# Altium integrated library Infineon_Power_Smart_Low-Side_&_High-Side_Switches.IntLib: 238 symbols (part 3 of 14)
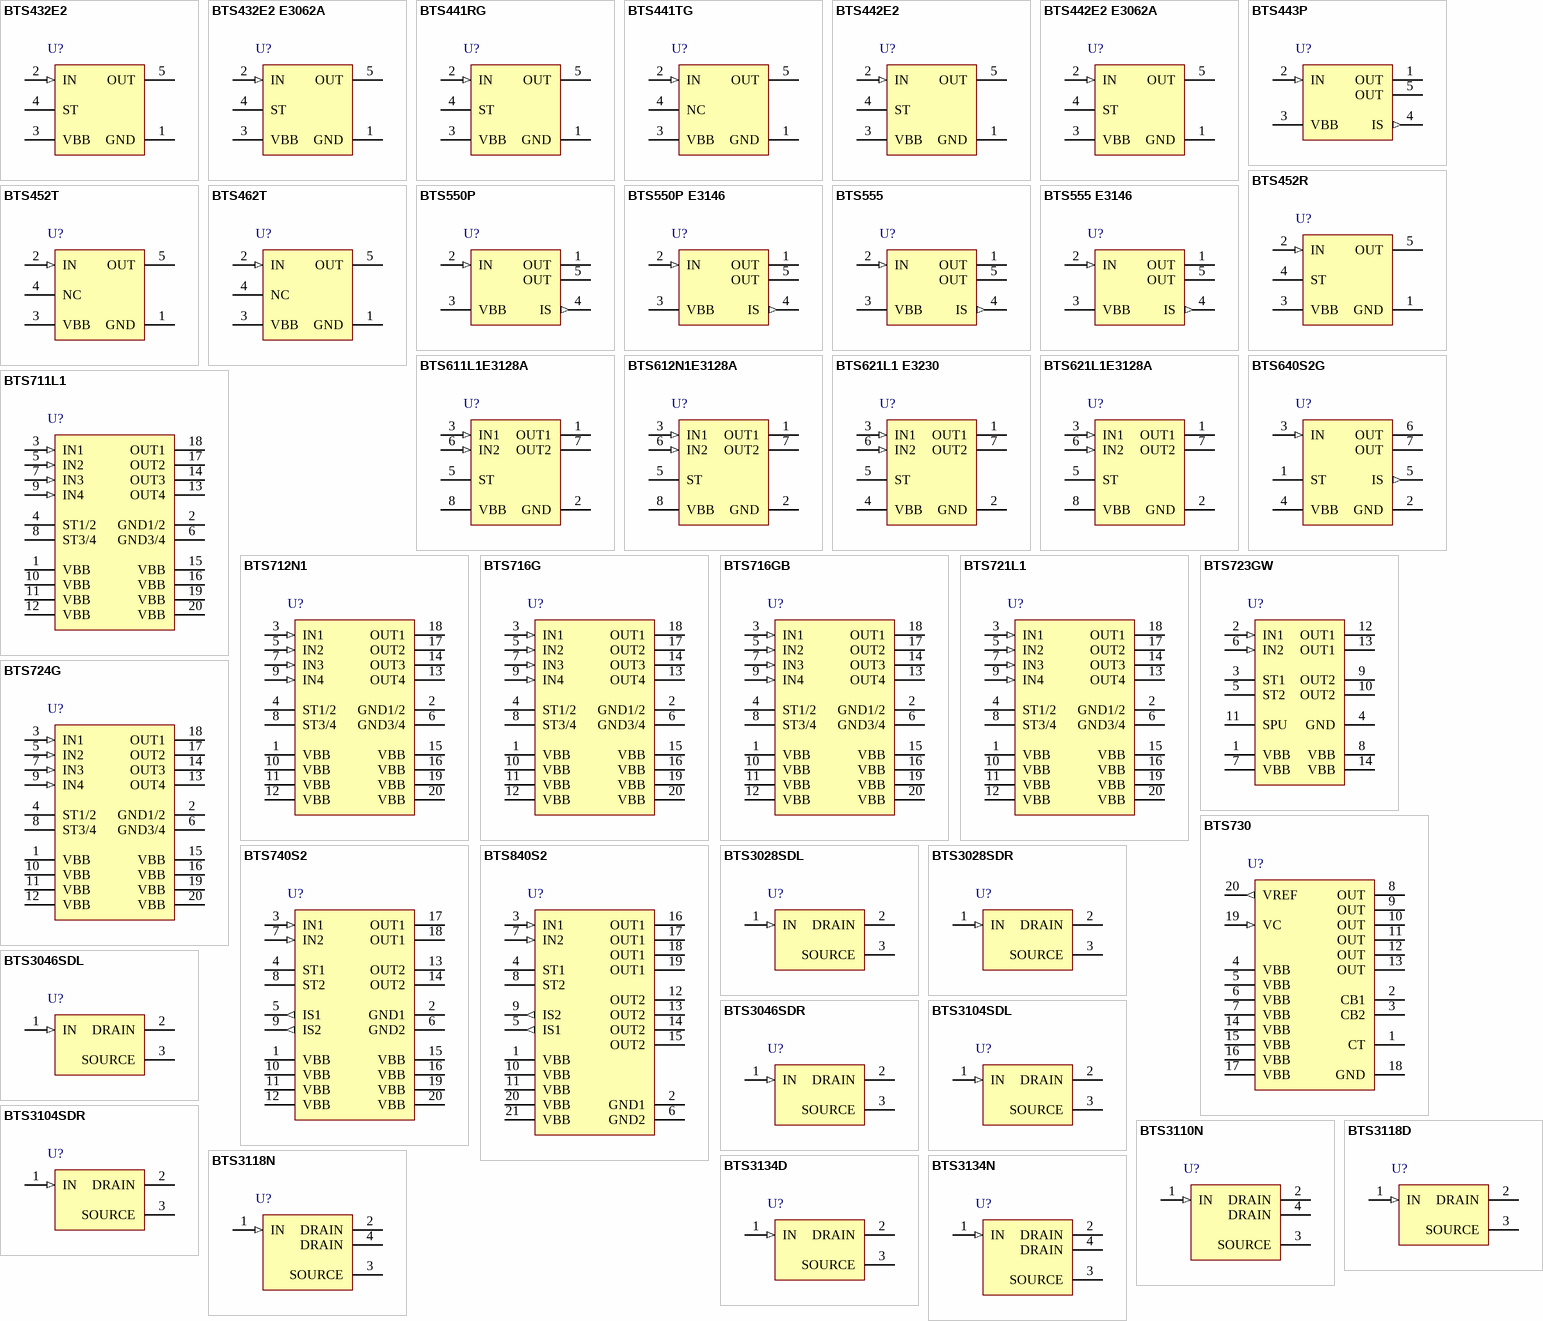
[diagram p9: symbols BTS432E2 to BTS3134N]

## BTS550P
designator U?
Smart Highside High Current Power Switch, -40 to 150 degC, PG-TO220AB-5, Tube; Manufacturer: Infineon; PartNumber: BTS550P; Green: FALSE; PackageVersion: V01, 06/2010; PackageReference: P-TO218-5-146; PackageDescription: 5-Pin Plastic Transistor Single Outline Package, 15 x 12.5 mm Body, 2.54 mm Pitch; Halogen-free: FALSE; Packing: Tube; Mounting Technology: Through Hole; ComponentLink1Description: Manufacturer URL; ComponentLink1URL: http://www.infineon.com/; ComponentLink2Description: Datasheet; ComponentLink2URL: http://www.infineon.com/dgdl/BTS550p_20030925.pdf?folderId=db3a304412b407950112b436e3d666fb&fileId=db3a304412b407950112b436e45666fc&location=en.Products.Automotive_ICs.Smart_High-_and_Low-Side_Switches.PROFET__-_Smart_High_Side_Switches.DATASHEET.BTS550p_20030925.pdf; ComponentLink3Description: Package Specification; ComponentLink3URL: http://www.infineon.com/dgdl/BTS550_DS_v11.pdf?folderId=db3a30431ddc9372011e26863f92474e&fileId=db3a30432ba3fa6f012bd3e978183b76&sId=db3a30443d67b5ca013d8572cdc4342b
footprint INF-P-TO218-5-146 (FM, 5-Leads, Body 15x12.5mm, Pitch 2.54mm)
pins: 1 OUT (power) "Output to the load. The pins 1 and 5 must be shorted with each other especially in high current applications", 2 IN (in) "Input, activates the power switch in case of short to ground", 3 VBB (power) "Positive power supply voltage, the tab is electrically connected to this pin. In high current applications the tab should be used for the Vbb connection instead of this pin.", 4 IS (out) "Diagnostic feedback providing a sense current proportional to the load current; zero current on failure", 5 OUT (power) "Output to the load. The pins 1 and 5 must be shorted with each other especially in high current applications"

## BTS550P E3146
designator U?
Smart High-Side High Current Power Switch, 1 Channel, 35 A Load Current, -40 to 150 degC, P-TO218-5-146, Reel, Green; Manufacturer: Infineon; PartNumber: BTS550P E3146; Channels: 1; Green: TRUE; Group: Automotive Qualified; Load Current (typ): 35 A; Ptot (max): 360 W; Recommended Operating Voltage Max.: 34 V; Recommended Operating Voltage Min.: 5 V; RON @ 25degreesC: 3.6 mOhm; RON(max) @ 150degreesC: 6.5 mOhm; toff (max): 150 us; ton (max): 600 us; PackageVersion: Jun-10; PackageReference: P-TO218-5-146; PackageDescription: 5-Pin Plastic Transistor Single Outline Package, 15 x 12.5 mm Body, 2.54 mm Pitch; Supplier 1: Digi-Key; Supplier Part Number 1: BTS550P E3146-ND; Halogen-free: FALSE; Packing: Reel; Mounting Technology: Through Hole; ComponentLink1Description: Manufacturer URL; ComponentLink1URL: http://www.infineon.com/; ComponentLink2Description: Datasheet; ComponentLink2URL: http://www.infineon.com/dgdl/BTS550_DS_v11.pdf?folderId=db3a30431ddc9372011e26863f92474e&fileId=db3a30432ba3fa6f012bd3e978183b76&location=en.Products.Automotive_ICs.Smart_High-_and_Low-Side_Switches.PROFET__-_Smart_High_Side_Switches.DATASHEET.BTS550_DS_v11.pdf; ComponentLink3Description: Package Specification; ComponentLink3URL: http://www.infineon.com/dgdl/BTS550_DS_v11.pdf?folderId=db3a30431ddc9372011e26863f92474e&fileId=db3a30432ba3fa6f012bd3e978183b76&sId=db3a30443d67b5ca013d8572cdc4342b
footprint INF-P-TO218-5-146 (FM, 5-Leads, Body 15x12.5mm, Pitch 2.54mm)
pins: 1 OUT (power) "Output to the load. The pins1 and 5 must be shorted with each other especially in high current applications!", 2 IN (in) "Input, activates the power switch in case of short to ground", 3 VBB (power) "Positive power supply voltage, the tab is electrically connected to this pin.In high current applications the tab should be used for the Vbb connection instead of this pin", 4 IS (out) "Diagnostic feedback providing a sense current proportional to the load current; zero current on failure (see Truth Table on page 7)", 5 OUT (power) "Output to the load. The pins1 and 5 must be shorted with each other especially in high current applications!"

## BTS555
designator U?
Smart Highside High Current Power Switch, -40 to 150 degC, P-TO218-5-1, Tube; Manufacturer: Infineon; PartNumber: BTS555; Green: FALSE; PackageVersion: Rev. 01, 06/2008; PackageReference: P-TO218-5-1; PackageDescription: 5-Pin Plastic Transistor Single Outline Package, 15 x 4.9 mm Body, 2.54 mm Pitch; Supplier 1: Mouser; Supplier Part Number 1: 726-BTS555; Supplier 2: Digi-Key; Supplier Part Number 2: BTS555-ND; Halogen-free: FALSE; Packing: Tube; Mounting Technology: Through Hole; ComponentLink1Description: Manufacturer URL; ComponentLink1URL: http://www.infineon.com/; ComponentLink2Description: Datasheet; ComponentLink2URL: http://www.infineon.com/dgdl/BTS555_20080624.pdf?folderId=db3a304412b407950112b436f494671e&fileId=db3a304412b407950112b436f516671f&location=en.Products.Automotive_ICs.Smart_High-_and_Low-Side_Switches.PROFET__-_Smart_High_Side_Switches.DATASHEET.BTS555_20080624.pdf; ComponentLink3Description: Package Specification; ComponentLink3URL: http://www.infineon.com/dgdl/BTS555_20080624.pdf?folderId=db3a304412b407950112b436f494671e&fileId=db3a304412b407950112b436f516671f&sId=db3a30443d67b5ca013d819962512cfa
footprint INF-P-TO218-5-1 (FM, 5-Leads, Body 15x4.9mm, Pitch 2.54mm)
pins: 1 OUT (power) "Output to the load. The pins 1 and 5 must be shorted with each other especially in high current applications", 2 IN (in) "Input, activates the power switch in case of short to ground", 3 VBB (power) "Positive power supply voltage, the tab is electrically connected to this pin. In high current applications the tab should be used for the Vbb connection instead of this pin.", 4 IS (out) "Diagnostic feedback providing a sense current proportional to the load current; zero current on failure", 5 OUT (power) "Output to the load. The pins 1 and 5 must be shorted with each other especially in high current applications"

## BTS555 E3146
designator U?
Smart High-Side High Current Power Switch, 1 Channel, 45 A Load Current, -40 to 150 degC, P-TO218-5-146, Reel, Green; Manufacturer: Infineon; PartNumber: BTS555 E3146; Channels: 1; Green: TRUE; Group: Automotive Qualified; Load Current (typ): 45 A; Ptot (max): 360 W; Recommended Operating Voltage Max.: 34 V; Recommended Operating Voltage Min.: 5 V; RON @ 25degreesC: 2.5 mOhm; RON(max) @ 150degreesC: 4 mOhm; toff (max): 200 us; ton (max): 600 us; PackageVersion: Jun-10; PackageReference: P-TO218-5-146; PackageDescription: 5-Pin Plastic Transistor Single Outline Package, 15 x 12.5 mm Body, 2.54 mm Pitch; Supplier 1: Digi-Key; Supplier Part Number 1: BTS555E3146INLF-ND; Supplier 2: Digi-Key; Supplier Part Number 2: BTS555E3146IN-ND; Halogen-free: FALSE; Packing: Reel; Mounting Technology: Through Hole; ComponentLink1Description: Manufacturer URL; ComponentLink1URL: http://www.infineon.com/; ComponentLink2Description: Datasheet; ComponentLink2URL: http://www.infineon.com/dgdl/BTS555_DS_v11.pdf?folderId=db3a30431ddc9372011e26863f92474e&fileId=db3a30432ba3fa6f012bd3dfdd0b3b65&location=en.Products.Automotive_ICs.Smart_High-_and_Low-Side_Switches.PROFET__-_Smart_High_Side_Switches.DATASHEET.BTS555_DS_v11.pdf; ComponentLink3Description: Package Specification; ComponentLink3URL: http://www.infineon.com/dgdl/BTS550_DS_v11.pdf?folderId=db3a30431ddc9372011e26863f92474e&fileId=db3a30432ba3fa6f012bd3e978183b76&sId=db3a30443d67b5ca013d8572cdc4342b
footprint INF-P-TO218-5-146 (FM, 5-Leads, Body 15x12.5mm, Pitch 2.54mm)
pins: 1 OUT (power) "Output to the load. The pins1 and 5 must be shorted with each other especially in high current applications!", 2 IN (in) "Input, activates the power switch in case of short to ground", 3 VBB (power) "Positive power supply voltage, the tab is electrically connected to this pin.In high current applications the tab should be used for the Vbb connection instead of this pin", 4 IS (out) "Diagnostic feedback providing a sense current proportional to the load current; zero current on failure (see Truth Table on page 7)", 5 OUT (power) "Output to the load. The pins1 and 5 must be shorted with each other especially in high current applications!"

## BTS611L1E3128A
designator U?
Smart Two Channel High-Side Power Switch, 5 to 34 V, -40 to 150 degC, PG-TO263-7, Reel, Green; Manufacturer: Infineon; PartNumber: BTS611L1E3128A; Channels: 2; Diagnostic: Digital; Green: TRUE; IL (nom)min - all channels active: 3.5 A; IL (nom)min - one channel active: 1.8 A; IL(SC): 4 A; Load Current (typ): 2.3 A; Ptot (max): 36 W; Recommended Operating Voltage Max.: 34 V; Recommended Operating Voltage Min.: 5 V; RON (max) @ Tj: 150degreesC=400 mOhm; RON @ Tj: 25degreesC=200 mOhm; toff (max): 400 us; PackageReference: PG-TO263-7-2; PackageDescription: 7-Pin Plastic (Green) Transistor Single Outline Package, 10 x 9.25 mm Body, 1.27 mm Pitch; Packing: Reel; ton (max): 400 us; Mounting Technology: Surface Mount; ComponentLink1Description: Manufacturer URL; ComponentLink1URL: http://www.infineon.com/; ComponentLink2Description: Datasheet; ComponentLink2URL: http://www.infineon.com/dgdl/BTS611L1_20131011.pdf?folderId=db3a30431400ef68011421b54e2e0564&fileId=5546d461463c1ac8014641a17a8571ab; ComponentLink3Description: Package Specification; ComponentLink3URL: http://www.infineon.com/cms/packages/SMD_-_Surface_Mounted_Devices/P-PG-TO263/P-TO263-07-02x_-3.html?__locale=en
footprint INF-PG-TO263-7-2_V (DPAK, 7-Leads, Body 10x9.25mm, Pitch 1.27mm)
pins: 1 OUT1 (power) "Output 1, protected high-side power output of channel 1", 2 GND (power) "Logic ground", 3 IN1 (in) "Input 1, activates channel 1 in case of logical high signal", 5 ST (oc) "Diagnostic feedback: open drain, low on failure", 6 IN2 (in) "Input 2, activates channel 2 in case of logical high signal", 7 OUT2 (power) "Output 2, protected high-side power output of channel 2", 8 VBB (power) "Positive power supply voltage, the tab is shorted to this pin"

## BTS612N1E3128A
designator U?
Smart Two Channel High-Side Power Switch, 5 to 34 V, -40 to 150 degC, PG-TO263-7, Reel, Green; Manufacturer: Infineon; PartNumber: BTS612N1E3128A; Channels: 2; Diagnostic: Digital; Green: TRUE; IL (nom)min - all channels active: 3.5 A; IL (nom)min - one channel active: 1.8 A; IL(SC): 4 A; Ptot (max): 36 W; Recommended Operating Voltage Max.: 34 V; Recommended Operating Voltage Min.: 5 V; RON (max) @ Tj: 150degreesC=500 mOhm; RON @ Tj: 25degreesC=200 mOhm; toff (max): 400 us; PackageReference: PG-TO263-7-2; PackageDescription: 7-Pin Plastic (Green) Transistor Single Outline Package, 10 x 9.25 mm Body, 1.27 mm Pitch; Packing: Reel; ton (max): 400 us; Mounting Technology: Surface Mount; ComponentLink1Description: Manufacturer URL; ComponentLink1URL: http://www.infineon.com/; ComponentLink2Description: Datasheet; ComponentLink2URL: http://www.infineon.com/dgdl/BTS612N1_20131011.pdf?folderId=db3a30431400ef68011421b54e2e0564&fileId=5546d461463c1ac8014641a6188e71ca; ComponentLink3Description: Package Specification; ComponentLink3URL: http://www.infineon.com/cms/packages/SMD_-_Surface_Mounted_Devices/P-PG-TO263/P-TO263-07-02x_-3.html?__locale=en
footprint INF-PG-TO263-7-2_V (DPAK, 7-Leads, Body 10x9.25mm, Pitch 1.27mm)
pins: 1 OUT1 (power) "Output 1, protected high-side power output of channel 1", 2 GND (power) "Logic ground", 3 IN1 (in) "Input 1, activates channel 1 in case of logical high signal", 5 ST (oc) "Diagnostic feedback: open drain, low on failure", 6 IN2 (in) "Input 2, activates channel 2 in case of logical high signal", 7 OUT2 (power) "Output 2, protected high-side power output of channel 2", 8 VBB (power) "Positive power supply voltage, the tab is shorted to this pin"

## BTS621L1 E3230
designator U?
Smart High-Side Power Switch, 2 Channels, 8.5 A Load Current, -40 to 150 degC, P-TO220-7-230, Reel; Manufacturer: Infineon; PartNumber: BTS621L1 E3230; Channels: 2; Green: FALSE; Group: Automotive Qualified; Load Current (typ): 8.5 A; Ptot (max): 75 W; Recommended Operating Voltage Max.: 34 V; Recommended Operating Voltage Min.: 5 V; RON @ 25degreesC: 100 mOhm; RON(max) @ 150degreesC: 200 mOhm; toff (max): 400 us; PackageReference: P-TO220-7-230; PackageDescription: 7-Pin Plastic Transistor Single Outline Package, 9.9 x 9.2 mm Body, 1.27 mm Pitch; Supplier 1: Digi-Key; Supplier Part Number 1: BTS621L1 E3230-ND; Halogen-free: FALSE; Packing: Reel; ton (max): 400 us; Mounting Technology: Through Hole; ComponentLink1Description: Manufacturer URL; ComponentLink1URL: http://www.infineon.com/; ComponentLink2Description: Datasheet; ComponentLink2URL: http://www.infineon.com/dgdl/BTS621L1_20030922.pdf?folderId=db3a30431400ef68011421b54e2e0564&fileId=db3a304333227b5e0133258247c72ecc&location=en.Products.Automotive_ICs.Smart_High-_and_Low-Side_Switches.PROFET__-_Smart_High_Side_Switches.DATASHEET.BTS621L1_20030922.pdf; ComponentLink3Description: Package Specification; ComponentLink3URL: http://www.infineon.com/cms/packages/Leaded_and_through-hole/P-PG-TO220/P-PG-TO220-7-230.html?__locale=en
footprint INF-P-TO220-7-230 (FM, 7-Leads, Body 9.9x4.4mm, Pitch 1.27mm)
pins: 1 OUT1 (power) "Output 1, protected high-side power output of channel 1", 2 GND (power) "Logic ground", 3 IN1 (in) "Input 1, activates channel 1 in case of logical high signal", 4 VBB (power) "Positive power supply voltage, the tab is shorted to this pin", 5 ST (oc) "Diagnostic feedback: open drain, low on failure", 6 IN2 (in) "Input 2, activates channel 2 in case of logical high signal", 7 OUT2 (power) "Output 2, protected high-side power output of channel 2"

## BTS621L1E3128A
designator U?
Smart Two Channel High-Side Power Switch, 5 to 34 V, -40 to 150 degC, PG-TO263-7, Reel, Green; Manufacturer: Infineon; PartNumber: BTS621L1E3128A; Channels: 2; Diagnostic: Digital; Green: TRUE; IL (SCp): 14 A; IL(SC): 8 A; Load Current (typ): 8.5 A; Ptot (max): 75 W; Recommended Operating Voltage Max.: 34 V; Recommended Operating Voltage Min.: 5 V; RON (max) @ Tj: 150degreesC=200 mOhm; RON @ Tj: 25degreesC=100 mOhm; toff (max): 400 us; PackageReference: PG-TO263-7-2; PackageDescription: 7-Pin Plastic (Green) Transistor Single Outline Package, 10 x 9.25 mm Body, 1.27 mm Pitch; Packing: Reel; ton (max): 400 us; Mounting Technology: Surface Mount; ComponentLink1Description: Manufacturer URL; ComponentLink1URL: http://www.infineon.com/; ComponentLink2Description: Datasheet; ComponentLink2URL: http://www.infineon.com/dgdl/BTS621L1_20131011.pdf?folderId=db3a30431400ef68011421b54e2e0564&fileId=db3a304333227b5e0133258247c72ecc; ComponentLink3Description: Package Specification; ComponentLink3URL: http://www.infineon.com/cms/packages/SMD_-_Surface_Mounted_Devices/P-PG-TO263/P-TO263-07-02x_-3.html?__locale=en
footprint INF-PG-TO263-7-2_V (DPAK, 7-Leads, Body 10x9.25mm, Pitch 1.27mm)
pins: 1 OUT1 (power) "Output 1, protected high-side power output of channel 1", 2 GND (power) "Logic ground", 3 IN1 (in) "Input 1, activates channel 1 in case of logical high signal", 5 ST (oc) "Diagnostic feedback: open drain, low on failure", 6 IN2 (in) "Input 2, activates channel 2 in case of logical high signal", 7 OUT2 (power) "Output 2, protected high-side power output of channel 2", 8 VBB (power) "Positive power supply voltage, the tab is shorted to this pin"

## BTS640S2G
designator U?
Smart High-Side Power Switch, 1 Channel, 4.5 A Load Current, -40 to 150 degC, PG-TO-263-7-6, Reel, Green; Manufacturer: Infineon; PartNumber: BTS640S2G; Channels: 1; Green: TRUE; Group: Automotive Qualified; Load Current (typ): 4.5 A; Ptot (max): 85 W; Recommended Operating Voltage Max.: 34 V; Recommended Operating Voltage Min.: 5 V; RON @ 25degreesC: 30 mOhm; RON(max) @ 150degreesC: 60 mOhm; toff (max): 150 us; ton (max): 200 us; DatasheetVersion: Rev. 1.1; PackageVersion: Aug-08; PackageReference: PG-TO-263-7-6; PackageDescription: 7-Pin Plastic (Green) Transistor Single Outline Package, 9.9 x 9.2 mm Body, 1.27 mm Pitch; Supplier 1: Mouser; Supplier Part Number 1: 726-BTS640S2G; Supplier 2: Newark; Supplier Part Number 2: 47W3406; Supplier 3: Farnell; Supplier Part Number 3: 2215499; Halogen-free: TRUE; Packing: Reel; Mounting Technology: Surface Mount; ComponentLink1Description: Manufacturer URL; ComponentLink1URL: http://www.infineon.com/; ComponentLink2Description: Datasheet; ComponentLink2URL: http://www.infineon.com/dgdl/BTS640S2G_2008_18_08_green.pdf?folderId=db3a304314dca389011537739e37155f&fileId=db3a30431c48a312011c4c26425c0023&location=en.Products.Automotive_ICs.Smart_High-_and_Low-Side_Switches.PROFET__-_Smart_High_Side_Switches.DATASHEET.BTS640S2G_2008_18_08_green.pdf; ComponentLink3Description: Package Specification; ComponentLink3URL: http://www.infineon.com/dgdl/BTS640S2G_2008_18_08_green.pdf?folderId=db3a304314dca389011537739e37155f&fileId=db3a30431c48a312011c4c26425c0023&sId=db3a30443d67b5ca013d8261f3a92e73
footprint INF-PG-TO-263-7-6_N (DPAK, 7-Leads, Body 9.9x9.2mm, Pitch 1.27mm, IPC Medium Density)
footprint INF-PG-TO-263-7-6_L (DPAK, 7-Leads, Body 9.9x9.2mm, Pitch 1.27mm, IPC High Density)
footprint INF-PG-TO-263-7-6_M (DPAK, 7-Leads, Body 9.9x9.2mm, Pitch 1.27mm, IPC Low Density)
pins: 1 ST (oc) "Diagnostic feedback: open drain, invers to input level", 2 GND (power) "Logic ground", 3 IN (in) "Input, activates the power switch in case of logical high signal", 4 VBB (power) "Positive power supply voltage, the tab is shorted to this pin", 5 IS (out) "Sense current output, proportional to the load current, zero in  the case of current limitation of load current", 6 OUT (power) "Output, protected high-side power output to the load.  Both output pins have to be connected in parallel for operation  according this spec (e.g. kILIS). Design the wiring for the max. short circuit current", 7 OUT (power) "Output, protected high-side power output to the load.  Both output pins have to be connected in parallel for operation  according this spec (e.g. kILIS). Design the wiring for the max. short circuit current"

## BTS711L1
designator U?
Smart High-Side Power Switch, 4 Channels, 1.9 A Load Current, -40 to 150 degC, PG-DSO-20-31, Reel, Green; Manufacturer: Infineon; PartNumber: BTS711L1; Channels: 4; Green: TRUE; Group: Automotive Qualified; Load Current (typ): 1.9 A; Recommended Operating Voltage Max.: 35 V; Recommended Operating Voltage Min.: 5 V; RON @ 25degreesC: 200 mOhm; RON(max) @ 150degreesC: 400 mOhm; DatasheetVersion: Rev 1.3; PackageVersion: Jan-12; PackageReference: PG-DSO-20-31; PackageDescription: 20-Pin Plastic (Green) Dual Small Outline Package, 12.7 x 7.5 mm Body, 1.27 mm Pitch; Supplier 1: Mouser; Supplier Part Number 1: 726-BTS711L1; Supplier 2: Digi-Key; Supplier Part Number 2: BTS711L1INTR-ND; Supplier 3: Digi-Key; Supplier Part Number 3: BTS711L1INCT-ND; Supplier 4: Digi-Key; Supplier Part Number 4: BTS711L1INDKR-ND; Halogen-free: TRUE; Packing: Reel; Mounting Technology: Surface Mount; ComponentLink1Description: Manufacturer URL; ComponentLink1URL: http://www.infineon.com/; ComponentLink2Description: Datasheet; ComponentLink2URL: http://www.infineon.com/dgdl/BTS711L1_DS13.pdf?folderId=db3a304314dca389011537739e37155f&fileId=db3a30432239cccd0122e55f98d43c5f&location=en.Products.Automotive_ICs.Smart_High-_and_Low-Side_Switches.PROFET__-_Smart_High_Side_Switches.DATASHEET.BTS711L1_DS13.pdf; ComponentLink3Description: Package Specification; ComponentLink3URL: http://www.infineon.com/dgdl/BTS711L1_DS13.pdf?folderId=db3a304314dca389011537739e37155f&fileId=db3a30432239cccd0122e55f98d43c5f&sId=db3a30433d68e984013d81ad4c8d73f2
footprint INF-PG-DSO-20-31_N (SOP, 20-Leads, Body 12.7x7.5mm, Pitch 1.27mm, IPC High Density)
footprint INF-PG-DSO-20-31_L (SOP, 20-Leads, Body 12.7x7.5mm, Pitch 1.27mm, IPC High Density)
footprint INF-PG-DSO-20-31_M (SOP, 20-Leads, Body 12.7x7.5mm, Pitch 1.27mm, IPC Low Density)
pins: 1 VBB (power) "Positive power supply voltage. Design the wiring for the simultaneous max. short circuit currents from channel 1 to 2 and also for low thermal resistance", 2 GND1/2 (power) "Ground of chip 1 (channel 1,2)", 3 IN1 (in) "Input 1 activates channel 1 in case of logic high signal", 4 ST1/2 (oc) "Diagnostic feedback 1/2,3/4 of channel 1,2,3,4 open drain, low on failure", 5 IN2 (in) "Input 2 activates channel 2 in case of logic high signal", 6 GND3/4 (power) "Ground of chip 2 (channel 3,4)", 7 IN3 (in) "Input 3 activates channel 3 in case of logic high signal", 8 ST3/4 (oc) "Diagnostic feedback 1/2,3/4 of channel 1,2,3,4 open drain, low on failure", 9 IN4 (in) "Input 4 activates channel 4 in case of logic high signal", 10 VBB (power) "Positive power supply voltage. Design the wiring for the simultaneous max. short circuit currents from channel 1 to 2 and also for low thermal resistance", 11 VBB (power) "Positive power supply voltage. Design the wiring for the simultaneous max. short circuit currents from channel 1 to 2 and also for low thermal resistance", 12 VBB (power) "Positive power supply voltage. Design the wiring for the simultaneous max. short circuit currents from channel 1 to 2 and also for low thermal resistance", 13 OUT4 (power) "Output 1 protected high-side power output of channel 1. Design the wiring for the max. short circuit current", 14 OUT3 (power) "Output 1 protected high-side power output of channel 1. Design the wiring for the max. short circuit current", 15 VBB (power) "Positive power supply voltage. Design the wiring for the simultaneous max. short circuit currents from channel 1 to 2 and also for low thermal resistance", 16 VBB (power) "Positive power supply voltage. Design the wiring for the simultaneous max. short circuit currents from channel 1 to 2 and also for low thermal resistance", 17 OUT2 (power) "Output 1 protected high-side power output of channel 1. Design the wiring for the max. short circuit current", 18 OUT1 (power) "Output 1 protected high-side power output of channel 1. Design the wiring for the max. short circuit current", 19 VBB (power) "Positive power supply voltage. Design the wiring for the simultaneous max. short circuit currents from channel 1 to 2 and also for low thermal resistance", 20 VBB (power) "Positive power supply voltage. Design the wiring for the simultaneous max. short circuit currents from channel 1 to 2 and also for low thermal resistance"

## BTS712N1
designator U?
Smart High-Side Power Switch, 4 Channels, 1.9 A Load Current, -40 to 150 degC, PG-DSO-20-31, Reel, Green; Manufacturer: Infineon; PartNumber: BTS712N1; Channels: 4; Green: TRUE; Group: Automotive Qualified; Load Current (typ): 1.9 A; Recommended Operating Voltage Max.: 34 V; Recommended Operating Voltage Min.: 5 V; RON @ 25degreesC: 200 mOhm; RON(max) @ 150degreesC: 400 mOhm; DatasheetVersion: Rev 1.3; PackageVersion: Jan-12; PackageReference: PG-DSO-20-31; PackageDescription: 20-Pin Plastic (Green) Dual Small Outline Package, 12.7 x 7.5 mm Body, 1.27 mm Pitch; Supplier 1: Mouser; Supplier Part Number 1: 726-BTS712N1; Supplier 2: Newark; Supplier Part Number 2: 78X4840; Supplier 3: Farnell; Supplier Part Number 3: 2432498; Supplier 4: Digi-Key; Supplier Part Number 4: BTS712N1TR-ND; Supplier 5: Digi-Key; Supplier Part Number 5: BTS712N1CT-ND; Supplier 6: Digi-Key; Supplier Part Number 6: BTS712N1DKR-ND; Halogen-free: TRUE; Packing: Reel; Mounting Technology: Surface Mount; ComponentLink1Description: Manufacturer URL; ComponentLink1URL: http://www.infineon.com/; ComponentLink2Description: Datasheet; ComponentLink2URL: http://www.infineon.com/dgdl/BTS712N1_DS13.pdf?folderId=db3a304314dca389011537739e37155f&fileId=db3a30432239cccd0122e55c9d9d3c59&location=en.Products.Automotive_ICs.Smart_High-_and_Low-Side_Switches.PROFET__-_Smart_High_Side_Switches.DATASHEET.BTS712N1_DS13.pdf; ComponentLink3Description: Package Specification; ComponentLink3URL: http://www.infineon.com/dgdl/BTS711L1_DS13.pdf?folderId=db3a304314dca389011537739e37155f&fileId=db3a30432239cccd0122e55f98d43c5f&sId=db3a30433d68e984013d81ad4c8d73f2
footprint INF-PG-DSO-20-31_N (SOP, 20-Leads, Body 12.7x7.5mm, Pitch 1.27mm, IPC High Density)
footprint INF-PG-DSO-20-31_L (SOP, 20-Leads, Body 12.7x7.5mm, Pitch 1.27mm, IPC High Density)
footprint INF-PG-DSO-20-31_M (SOP, 20-Leads, Body 12.7x7.5mm, Pitch 1.27mm, IPC Low Density)
pins: 1 VBB (power) "Positive power supply voltage. Design the wiring for the simultaneous max. short circuit currents from channel 1 to 2 and also for low thermal resistance", 2 GND1/2 (power) "Ground of chip 1 (channel 1,2)", 3 IN1 (in) "Input 1 activates channel 1 in case of logic high signal", 4 ST1/2 (oc) "Diagnostic feedback 1/2,3/4 of channel 1,2,3,4 open drain, low on failure", 5 IN2 (in) "Input 2 activates channel 2 in case of logic high signal", 6 GND3/4 (power) "Ground of chip 2 (channel 3,4)", 7 IN3 (in) "Input 3 activates channel 3 in case of logic high signal", 8 ST3/4 (oc) "Diagnostic feedback 1/2,3/4 of channel 1,2,3,4 open drain, low on failure", 9 IN4 (in) "Input 4 activates channel 4 in case of logic high signal", 10 VBB (power) "Positive power supply voltage. Design the wiring for the simultaneous max. short circuit currents from channel 1 to 2 and also for low thermal resistance", 11 VBB (power) "Positive power supply voltage. Design the wiring for the simultaneous max. short circuit currents from channel 1 to 2 and also for low thermal resistance", 12 VBB (power) "Positive power supply voltage. Design the wiring for the simultaneous max. short circuit currents from channel 1 to 2 and also for low thermal resistance", 13 OUT4 (power) "Output 1 protected high-side power output of channel 1. Design the wiring for the max. short circuit current", 14 OUT3 (power) "Output 1 protected high-side power output of channel 1. Design the wiring for the max. short circuit current", 15 VBB (power) "Positive power supply voltage. Design the wiring for the simultaneous max. short circuit currents from channel 1 to 2 and also for low thermal resistance", 16 VBB (power) "Positive power supply voltage. Design the wiring for the simultaneous max. short circuit currents from channel 1 to 2 and also for low thermal resistance", 17 OUT2 (power) "Output 1 protected high-side power output of channel 1. Design the wiring for the max. short circuit current", 18 OUT1 (power) "Output 1 protected high-side power output of channel 1. Design the wiring for the max. short circuit current", 19 VBB (power) "Positive power supply voltage. Design the wiring for the simultaneous max. short circuit currents from channel 1 to 2 and also for low thermal resistance", 20 VBB (power) "Positive power supply voltage. Design the wiring for the simultaneous max. short circuit currents from channel 1 to 2 and also for low thermal resistance"

## BTS716G
designator U?
Smart High-Side Power Switch, 4 Channels, 1.2 A Load Current, -40 to 150 degC, PG-DSO-20-31, Reel, Green; Manufacturer: Infineon; PartNumber: BTS716G; Channels: 4; Green: TRUE; Group: Automotive Qualified; Load Current (typ): 1.2 A; Ptot (max): 3.6 W; Recommended Operating Voltage Max.: 40 V; Recommended Operating Voltage Min.: 5.5 V; RON @ 25degreesC: 140 mOhm; RON(max) @ 150degreesC: 280 mOhm; toff (max): 270 us; ton (max): 250 us; DatasheetVersion: Rev. 1.0; PackageVersion: Jan-12; PackageReference: PG-DSO-20-31; PackageDescription: 20-Pin Plastic (Green) Dual Small Outline Package, 12.7 x 7.5 mm Body, 1.27 mm Pitch; Supplier 1: Mouser; Supplier Part Number 1: 726-BTS716G; Supplier 2: Newark; Supplier Part Number 2: 47W3407; Supplier 3: Farnell; Supplier Part Number 3: 2215498; Supplier 4: Digi-Key; Supplier Part Number 4: BTS716GINTR-ND; Supplier 5: Digi-Key; Supplier Part Number 5: BTS716GINCT-ND; Supplier 6: Digi-Key; Supplier Part Number 6: BTS716GINDKR-ND; Halogen-free: TRUE; Packing: Reel; Mounting Technology: Surface Mount; ComponentLink1Description: Manufacturer URL; ComponentLink1URL: http://www.infineon.com/; ComponentLink2Description: Datasheet; ComponentLink2URL: http://www.infineon.com/dgdl/BTS716G.pdf?folderId=db3a304314dca389011537739e37155f&fileId=db3a304316f112290116f298181a7257&location=en.Products.Automotive_ICs.Smart_High-_and_Low-Side_Switches.PROFET__-_Smart_High_Side_Switches.DATASHEET.BTS716G.pdf; ComponentLink3Description: Package Specification; ComponentLink3URL: http://www.infineon.com/dgdl/BTS711L1_DS13.pdf?folderId=db3a304314dca389011537739e37155f&fileId=db3a30432239cccd0122e55f98d43c5f&sId=db3a30433d68e984013d81ad4c8d73f2
footprint INF-PG-DSO-20-31_N (SOP, 20-Leads, Body 12.7x7.5mm, Pitch 1.27mm, IPC High Density)
footprint INF-PG-DSO-20-31_L (SOP, 20-Leads, Body 12.7x7.5mm, Pitch 1.27mm, IPC High Density)
footprint INF-PG-DSO-20-31_M (SOP, 20-Leads, Body 12.7x7.5mm, Pitch 1.27mm, IPC Low Density)
pins: 1 VBB (power) "Positive power supply voltage. Design the wiring for the simultaneous max. short circuit currents from channel 1 to 2 and also for low thermal resistance", 2 GND1/2 (power) "Ground of chip 1 (channel 1,2)", 3 IN1 (in) "Input 1 activates channel 1 in case of logic high signal", 4 ST1/2 (oc) "Diagnostic feedback 1/2,3/4 of channel 1,2,3,4 open drain, low on failure", 5 IN2 (in) "Input 2 activates channel 2 in case of logic high signal", 6 GND3/4 (power) "Ground of chip 2 (channel 3,4)", 7 IN3 (in) "Input 3 activates channel 3 in case of logic high signal", 8 ST3/4 (oc) "Diagnostic feedback 1/2,3/4 of channel 1,2,3,4 open drain, low on failure", 9 IN4 (in) "Input 4 activates channel 4 in case of logic high signal", 10 VBB (power) "Positive power supply voltage. Design the wiring for the simultaneous max. short circuit currents from channel 1 to 2 and also for low thermal resistance", 11 VBB (power) "Positive power supply voltage. Design the wiring for the simultaneous max. short circuit currents from channel 1 to 2 and also for low thermal resistance", 12 VBB (power) "Positive power supply voltage. Design the wiring for the simultaneous max. short circuit currents from channel 1 to 2 and also for low thermal resistance", 13 OUT4 (power) "Output 1 protected high-side power output of channel 1. Design the wiring for the max. short circuit current", 14 OUT3 (power) "Output 1 protected high-side power output of channel 1. Design the wiring for the max. short circuit current", 15 VBB (power) "Positive power supply voltage. Design the wiring for the simultaneous max. short circuit currents from channel 1 to 2 and also for low thermal resistance", 16 VBB (power) "Positive power supply voltage. Design the wiring for the simultaneous max. short circuit currents from channel 1 to 2 and also for low thermal resistance", 17 OUT2 (power) "Output 1 protected high-side power output of channel 1. Design the wiring for the max. short circuit current", 18 OUT1 (power) "Output 1 protected high-side power output of channel 1. Design the wiring for the max. short circuit current", 19 VBB (power) "Positive power supply voltage. Design the wiring for the simultaneous max. short circuit currents from channel 1 to 2 and also for low thermal resistance", 20 VBB (power) "Positive power supply voltage. Design the wiring for the simultaneous max. short circuit currents from channel 1 to 2 and also for low thermal resistance"

## BTS716GB
designator U?
Smart High-Side Power Switch, 4 Channels, 1.3 A Load Current, -40 to 150 degC, PG-DSO-20-31, Reel, Green; Manufacturer: Infineon; PartNumber: BTS716GB; Channels: 4; Green: TRUE; Group: Automotive Qualified; Load Current (typ): 1.3 A; Ptot (max): 3.6 W; Recommended Operating Voltage Max.: 40 V; Recommended Operating Voltage Min.: 5.5 V; RON @ 25degreesC: 140 mOhm; RON(max) @ 150degreesC: 280 mOhm; toff (max): 270 us; ton (max): 250 us; DatasheetVersion: Rev. 1.0; PackageVersion: Jan-12; PackageReference: PG-DSO-20-31; PackageDescription: 20-Pin Plastic (Green) Dual Small Outline Package, 12.7 x 7.5 mm Body, 1.27 mm Pitch; Supplier 1: Mouser; Supplier Part Number 1: 726-BTS716GB; Supplier 2: Newark; Supplier Part Number 2: 47W3408; Supplier 3: Farnell; Supplier Part Number 3: 2215497; Supplier 4: Digi-Key; Supplier Part Number 4: BTS716GBTR-ND; Supplier 5: Digi-Key; Supplier Part Number 5: BTS716GBCT-ND; Supplier 6: Digi-Key; Supplier Part Number 6: BTS716GBDKR-ND; Halogen-free: TRUE; Packing: Reel; Mounting Technology: Surface Mount; ComponentLink1Description: Manufacturer URL; ComponentLink1URL: http://www.infineon.com/; ComponentLink2Description: Datasheet; ComponentLink2URL: http://www.infineon.com/dgdl/BTS716GB_2007_GDS10.pdf?folderId=db3a304314dca389011537739e37155f&fileId=db3a30431c48a312011c4c2a11d90028&location=en.Products.Automotive_ICs.Smart_High-_and_Low-Side_Switches.PROFET__-_Smart_High_Side_Switches.DATASHEET.BTS716GB_2007_GDS10.pdf; ComponentLink3Description: Package Specification; ComponentLink3URL: http://www.infineon.com/dgdl/BTS711L1_DS13.pdf?folderId=db3a304314dca389011537739e37155f&fileId=db3a30432239cccd0122e55f98d43c5f&sId=db3a30433d68e984013d81ad4c8d73f2
footprint INF-PG-DSO-20-31_N (SOP, 20-Leads, Body 12.7x7.5mm, Pitch 1.27mm, IPC High Density)
footprint INF-PG-DSO-20-31_L (SOP, 20-Leads, Body 12.7x7.5mm, Pitch 1.27mm, IPC High Density)
footprint INF-PG-DSO-20-31_M (SOP, 20-Leads, Body 12.7x7.5mm, Pitch 1.27mm, IPC Low Density)
pins: 1 VBB (power) "Positive power supply voltage. Design the wiring for the simultaneous max. short circuit currents from channel 1 to 2 and also for low thermal resistance", 2 GND1/2 (power) "Ground of chip 1 (channel 1,2)", 3 IN1 (in) "Input 1 activates channel 1 in case of logic high signal", 4 ST1/2 (oc) "Diagnostic feedback 1/2,3/4 of channel 1,2,3,4 open drain, low on failure", 5 IN2 (in) "Input 2 activates channel 2 in case of logic high signal", 6 GND3/4 (power) "Ground of chip 2 (channel 3,4)", 7 IN3 (in) "Input 3 activates channel 3 in case of logic high signal", 8 ST3/4 (oc) "Diagnostic feedback 1/2,3/4 of channel 1,2,3,4 open drain, low on failure", 9 IN4 (in) "Input 4 activates channel 4 in case of logic high signal", 10 VBB (power) "Positive power supply voltage. Design the wiring for the simultaneous max. short circuit currents from channel 1 to 2 and also for low thermal resistance", 11 VBB (power) "Positive power supply voltage. Design the wiring for the simultaneous max. short circuit currents from channel 1 to 2 and also for low thermal resistance", 12 VBB (power) "Positive power supply voltage. Design the wiring for the simultaneous max. short circuit currents from channel 1 to 2 and also for low thermal resistance", 13 OUT4 (power) "Output 1 protected high-side power output of channel 1. Design the wiring for the max. short circuit current", 14 OUT3 (power) "Output 1 protected high-side power output of channel 1. Design the wiring for the max. short circuit current", 15 VBB (power) "Positive power supply voltage. Design the wiring for the simultaneous max. short circuit currents from channel 1 to 2 and also for low thermal resistance", 16 VBB (power) "Positive power supply voltage. Design the wiring for the simultaneous max. short circuit currents from channel 1 to 2 and also for low thermal resistance", 17 OUT2 (power) "Output 1 protected high-side power output of channel 1. Design the wiring for the max. short circuit current", 18 OUT1 (power) "Output 1 protected high-side power output of channel 1. Design the wiring for the max. short circuit current", 19 VBB (power) "Positive power supply voltage. Design the wiring for the simultaneous max. short circuit currents from channel 1 to 2 and also for low thermal resistance", 20 VBB (power) "Positive power supply voltage. Design the wiring for the simultaneous max. short circuit currents from channel 1 to 2 and also for low thermal resistance"

## BTS721L1
designator U?
Smart High-Side Power Switch, 4 Channels, 2.9 A Load Current, -40 to 150 degC, PG-DSO-20-31, Reel, Green; Manufacturer: Infineon; PartNumber: BTS721L1; Channels: 4; Green: TRUE; Group: Automotive Qualified; Load Current (typ): 2.9 A; Recommended Operating Voltage Max.: 34 V; Recommended Operating Voltage Min.: 5 V; RON @ 25degreesC: 100 mOhm; RON(max) @ 150degreesC: 200 mOhm; DatasheetVersion: Rev. 1.3; PackageVersion: Jan-12; PackageReference: PG-DSO-20-31; PackageDescription: 20-Pin Plastic (Green) Dual Small Outline Package, 12.7 x 7.5 mm Body, 1.27 mm Pitch; Supplier 1: Mouser; Supplier Part Number 1: 726-BTS721L1; Supplier 2: Newark; Supplier Part Number 2: 78X4841; Supplier 3: Farnell; Supplier Part Number 3: 2432499; Supplier 4: Digi-Key; Supplier Part Number 4: BTS721L1TR-ND; Supplier 5: Digi-Key; Supplier Part Number 5: BTS721L1CT-ND; Supplier 6: Digi-Key; Supplier Part Number 6: BTS721L1DKR-ND; Halogen-free: TRUE; Packing: Reel; Mounting Technology: Surface Mount; ComponentLink1Description: Manufacturer URL; ComponentLink1URL: http://www.infineon.com/; ComponentLink2Description: Datasheet; ComponentLink2URL: http://www.infineon.com/dgdl/BTS721L1_DS13.pdf?folderId=db3a304314dca389011537739e37155f&fileId=db3a30432239cccd0122e55e7c1e3c5c&location=en.Products.Automotive_ICs.Smart_High-_and_Low-Side_Switches.PROFET__-_Smart_High_Side_Switches.DATASHEET.BTS721L1_DS13.pdf; ComponentLink3Description: Package Specification; ComponentLink3URL: http://www.infineon.com/dgdl/BTS711L1_DS13.pdf?folderId=db3a304314dca389011537739e37155f&fileId=db3a30432239cccd0122e55f98d43c5f&sId=db3a30433d68e984013d81ad4c8d73f2
footprint INF-PG-DSO-20-31_N (SOP, 20-Leads, Body 12.7x7.5mm, Pitch 1.27mm, IPC High Density)
footprint INF-PG-DSO-20-31_L (SOP, 20-Leads, Body 12.7x7.5mm, Pitch 1.27mm, IPC High Density)
footprint INF-PG-DSO-20-31_M (SOP, 20-Leads, Body 12.7x7.5mm, Pitch 1.27mm, IPC Low Density)
pins: 1 VBB (power) "Positive power supply voltage. Design the wiring for the simultaneous max. short circuit currents from channel 1 to 2 and also for low thermal resistance", 2 GND1/2 (power) "Ground of chip 1 (channel 1,2)", 3 IN1 (in) "Input 1 activates channel 1 in case of logic high signal", 4 ST1/2 (oc) "Diagnostic feedback 1/2,3/4 of channel 1,2,3,4 open drain, low on failure", 5 IN2 (in) "Input 2 activates channel 2 in case of logic high signal", 6 GND3/4 (power) "Ground of chip 2 (channel 3,4)", 7 IN3 (in) "Input 3 activates channel 3 in case of logic high signal", 8 ST3/4 (oc) "Diagnostic feedback 1/2,3/4 of channel 1,2,3,4 open drain, low on failure", 9 IN4 (in) "Input 4 activates channel 4 in case of logic high signal", 10 VBB (power) "Positive power supply voltage. Design the wiring for the simultaneous max. short circuit currents from channel 1 to 2 and also for low thermal resistance", 11 VBB (power) "Positive power supply voltage. Design the wiring for the simultaneous max. short circuit currents from channel 1 to 2 and also for low thermal resistance", 12 VBB (power) "Positive power supply voltage. Design the wiring for the simultaneous max. short circuit currents from channel 1 to 2 and also for low thermal resistance", 13 OUT4 (power) "Output 1 protected high-side power output of channel 1. Design the wiring for the max. short circuit current", 14 OUT3 (power) "Output 1 protected high-side power output of channel 1. Design the wiring for the max. short circuit current", 15 VBB (power) "Positive power supply voltage. Design the wiring for the simultaneous max. short circuit currents from channel 1 to 2 and also for low thermal resistance", 16 VBB (power) "Positive power supply voltage. Design the wiring for the simultaneous max. short circuit currents from channel 1 to 2 and also for low thermal resistance", 17 OUT2 (power) "Output 1 protected high-side power output of channel 1. Design the wiring for the max. short circuit current", 18 OUT1 (power) "Output 1 protected high-side power output of channel 1. Design the wiring for the max. short circuit current", 19 VBB (power) "Positive power supply voltage. Design the wiring for the simultaneous max. short circuit currents from channel 1 to 2 and also for low thermal resistance", 20 VBB (power) "Positive power supply voltage. Design the wiring for the simultaneous max. short circuit currents from channel 1 to 2 and also for low thermal resistance"

## BTS723GW
designator U?
Smart High-Side Power Switch, 2 Channels, 2 A Load Current, -40 to 150 degC, PG-DSO-14-37, Reel, Green; Manufacturer: Infineon; PartNumber: BTS723GW; Channels: 2; Green: TRUE; Group: Automotive Qualified; Load Current (typ): 2 A; Ptot (max): 3 W; Recommended Operating Voltage Max.: 58 V; Recommended Operating Voltage Min.: 7 V; RON @ 25degreesC: 105 mOhm; RON(max) @ 150degreesC: 210 mOhm; toff (max): 95 us; ton (max): 55 us; DatasheetVersion: Rev. 1.1; PackageVersion: Sep-07; PackageReference: PG-DSO-14-37; PackageDescription: 14-Pin Plastic (Green) Dual Small Outline Package, 8.65 x 3.9 mm Body, 1.27 mm Pitch; Supplier 1: Mouser; Supplier Part Number 1: 726-BTS723GW; Supplier 2: Newark; Supplier Part Number 2: 78X4842; Supplier 3: Farnell; Supplier Part Number 3: 2432500; Supplier 4: Digi-Key; Supplier Part Number 4: BTS723GWTR-ND; Supplier 5: Digi-Key; Supplier Part Number 5: BTS723GWCT-ND; Supplier 6: Digi-Key; Supplier Part Number 6: BTS723GWDKR-ND; Halogen-free: TRUE; Packing: Reel; Mounting Technology: Surface Mount; ComponentLink1Description: Manufacturer URL; ComponentLink1URL: http://www.infineon.com/; ComponentLink2Description: Datasheet; ComponentLink2URL: http://www.infineon.com/dgdl/BTS723GWDS11_2007_09_25.pdf?folderId=db3a304314dca389011537739e37155f&fileId=db3a304331c8f8560131dbfec21b0da9&location=en.Products.Automotive_ICs.Smart_High-_and_Low-Side_Switches.PROFET__-_Smart_High_Side_Switches.DATASHEET.BTS723GWDS11_2007_09_25.pdf; ComponentLink3Description: Package Specification; ComponentLink3URL: http://www.infineon.com/dgdl/BTS723GWDS11_2007_09_25.pdf?folderId=db3a304314dca389011537739e37155f&fileId=db3a304331c8f8560131dbfec21b0da9&sId=db3a30443d67b5ca013d854df2f133e5
footprint INF-PG-DSO-14-37_N (SOP, 14-Leads, Body 8.65x3.9mm, Pitch 1.27mm, IPC Medium Density)
footprint INF-PG-DSO-14-37_L (SOP, 14-Leads, Body 8.65x3.9mm, Pitch 1.27mm, IPC High Density)
footprint INF-PG-DSO-14-37_M (SOP, 14-Leads, Body 8.65x3.9mm, Pitch 1.27mm, IPC Low Density)
pins: 1 VBB (power) "Positive power supply voltage. Design the wiring for the simultaneous max. short circuit currents from channel 1 to 2 and also for low thermal resistance", 2 IN1 (in) "Input 1,2 activates channel 1,2 in case of logic high signal", 3 ST1 (oc) "Diagnostic feedback 1,2 of channel 1,2 open drain", 4 GND (power) "Logic Ground", 5 ST2 (oc) "Diagnostic feedback 1,2 of channel 1,2 open drain", 6 IN2 (in) "Input 1,2 activates channel 1,2 in case of logic high signal", 7 VBB (power) "Positive power supply voltage. Design the wiring for the simultaneous max. short circuit currents from channel 1 to 2 and also for low thermal resistance", 8 VBB (power) "Positive power supply voltage. Design the wiring for the simultaneous max. short circuit currents from channel 1 to 2 and also for low thermal resistance", 9 OUT2 (power) "Output 1,2 protected high-side power output of channel 1,2. Design the wiring for the max. short circuit current; both output pins have to be connected in parallel for operation according this spec.", 10 OUT2 (power) "Output 1,2 protected high-side power output of channel 1,2. Design the wiring for the max. short circuit current; both output pins have to be connected in parallel for operation according this spec.", 11 SPU (power) "Connection for external pull up voltage source for the open drain status output. Pull up resistors are integrated.", 12 OUT1 (power) "Output 1,2 protected high-side power output of channel 1,2. Design the wiring for the max. short circuit current; both output pins have to be connected in parallel for operation according this spec.", 13 OUT1 (power) "Output 1,2 protected high-side power output of channel 1,2. Design the wiring for the max. short circuit current; both output pins have to be connected in parallel for operation according this spec.", 14 VBB (power) "Positive power supply voltage. Design the wiring for the simultaneous max. short circuit currents from channel 1 to 2 and also for low thermal resistance"

## BTS724G
designator U?
Smart High-Side Power Switch, 4 Channels, 1.6 A Load Current, -40 to 150 degC, PG-DSO-20-31, Reel, Green; Manufacturer: Infineon; PartNumber: BTS724G; Channels: 4; Green: TRUE; Group: Automotive Qualified; Load Current (typ): 1.6 A; Ptot (max): 3.6 W; Recommended Operating Voltage Max.: 40 V; Recommended Operating Voltage Min.: 5.5 V; RON @ 25degreesC: 90 mOhm; RON(max) @ 150degreesC: 180 mOhm; toff (max): 270 us; ton (max): 250 us; DatasheetVersion: Rev. 1.0; PackageVersion: Jan-12; PackageReference: PG-DSO-20-31; PackageDescription: 20-Pin Plastic (Green) Dual Small Outline Package, 12.7 x 7.5 mm Body, 1.27 mm Pitch; Supplier 1: Mouser; Supplier Part Number 1: 726-BTS724G; Supplier 2: Newark; Supplier Part Number 2: 47W3409; Supplier 3: Farnell; Supplier Part Number 3: 2215496; Supplier 4: Digi-Key; Supplier Part Number 4: BTS724GTR-ND; Supplier 5: Digi-Key; Supplier Part Number 5: BTS724GCT-ND; Supplier 6: Digi-Key; Supplier Part Number 6: BTS724GDKR-ND; Halogen-free: TRUE; Packing: Reel; Mounting Technology: Surface Mount; ComponentLink1Description: Manufacturer URL; ComponentLink1URL: http://www.infineon.com/; ComponentLink2Description: Datasheet; ComponentLink2URL: http://www.infineon.com/dgdl/BTS724G.pdf?folderId=db3a304314dca389011537739e37155f&fileId=db3a304316f112290116f299e245725c&location=en.Products.Automotive_ICs.Smart_High-_and_Low-Side_Switches.PROFET__-_Smart_High_Side_Switches.DATASHEET.BTS724G.pdf; ComponentLink3Description: Package Specification; ComponentLink3URL: http://www.infineon.com/dgdl/BTS711L1_DS13.pdf?folderId=db3a304314dca389011537739e37155f&fileId=db3a30432239cccd0122e55f98d43c5f&sId=db3a30433d68e984013d81ad4c8d73f2
footprint INF-PG-DSO-20-31_N (SOP, 20-Leads, Body 12.7x7.5mm, Pitch 1.27mm, IPC High Density)
footprint INF-PG-DSO-20-31_L (SOP, 20-Leads, Body 12.7x7.5mm, Pitch 1.27mm, IPC High Density)
footprint INF-PG-DSO-20-31_M (SOP, 20-Leads, Body 12.7x7.5mm, Pitch 1.27mm, IPC Low Density)
pins: 1 VBB (power) "Positive power supply voltage. Design the wiring for the simultaneous max. short circuit currents from channel 1 to 2 and also for low thermal resistance", 2 GND1/2 (power) "Ground of chip 1 (channel 1,2)", 3 IN1 (in) "Input 1 activates channel 1 in case of logic high signal", 4 ST1/2 (oc) "Diagnostic feedback 1/2,3/4 of channel 1,2,3,4 open drain, low on failure", 5 IN2 (in) "Input 2 activates channel 2 in case of logic high signal", 6 GND3/4 (power) "Ground of chip 2 (channel 3,4)", 7 IN3 (in) "Input 3 activates channel 3 in case of logic high signal", 8 ST3/4 (oc) "Diagnostic feedback 1/2,3/4 of channel 1,2,3,4 open drain, low on failure", 9 IN4 (in) "Input 4 activates channel 4 in case of logic high signal", 10 VBB (power) "Positive power supply voltage. Design the wiring for the simultaneous max. short circuit currents from channel 1 to 2 and also for low thermal resistance", 11 VBB (power) "Positive power supply voltage. Design the wiring for the simultaneous max. short circuit currents from channel 1 to 2 and also for low thermal resistance", 12 VBB (power) "Positive power supply voltage. Design the wiring for the simultaneous max. short circuit currents from channel 1 to 2 and also for low thermal resistance", 13 OUT4 (power) "Output 1 protected high-side power output of channel 1. Design the wiring for the max. short circuit current", 14 OUT3 (power) "Output 1 protected high-side power output of channel 1. Design the wiring for the max. short circuit current", 15 VBB (power) "Positive power supply voltage. Design the wiring for the simultaneous max. short circuit currents from channel 1 to 2 and also for low thermal resistance", 16 VBB (power) "Positive power supply voltage. Design the wiring for the simultaneous max. short circuit currents from channel 1 to 2 and also for low thermal resistance", 17 OUT2 (power) "Output 1 protected high-side power output of channel 1. Design the wiring for the max. short circuit current", 18 OUT1 (power) "Output 1 protected high-side power output of channel 1. Design the wiring for the max. short circuit current", 19 VBB (power) "Positive power supply voltage. Design the wiring for the simultaneous max. short circuit currents from channel 1 to 2 and also for low thermal resistance", 20 VBB (power) "Positive power supply voltage. Design the wiring for the simultaneous max. short circuit currents from channel 1 to 2 and also for low thermal resistance"